# EAGLE library part 74LVC3G34GT,115 (library SamacSys_Parts)
74LVC3G34 - Triple buffer@en-us Source: Datasheet <https://assets.nexperia.com/documents/data-sheet/74LVC3G34.pdf>
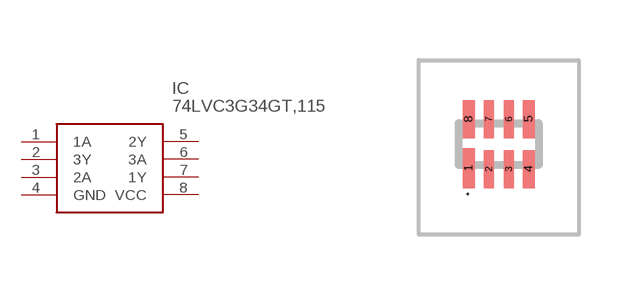
[diagram p75: symbol with the pads of 74AVC9112GTX; footprint 74AVC9112GTX]

Designator prefix IC

## 74LVC3G34GT,115 (DESCRIPTION: 74LVC3G34 - Triple buffer@en-us; HEIGHT: 0.5mm; MANUFACTURER_NAME: Nexperia; MANUFACTURER_PART_NUMBER: 74LVC3G34GT,115; MOUSER_PART_NUMBER: 771-LVC3G34GT115; MOUSER_PRICE-STOCK: https://www.mouser.co.uk/ProductDetail/Nexperia/74LVC3G34GT115?qs=me8TqzrmIYX1Vi6iNBWlag%3D%3D)  [74AVC9112GTX]
1  1A
2  3Y
3  2A
4  GND
5  2Y
6  3A
7  1Y
8  VCC

## Footprint 74AVC9112GTX (pad centres in mm)
SOT833-1
smd 0.3 x 1: 1 -0.75,-0.6
smd 0.25 x 0.95: 2 -0.25,-0.625; 3 0.25,-0.625; 6 0.25,0.625; 7 -0.25,0.625
smd 0.3 x 0.95: 4 0.75,-0.625; 5 0.75,0.625; 8 -0.75,0.625